# EAGLE library part HEADER-2X7P (library Deegou_Connector)
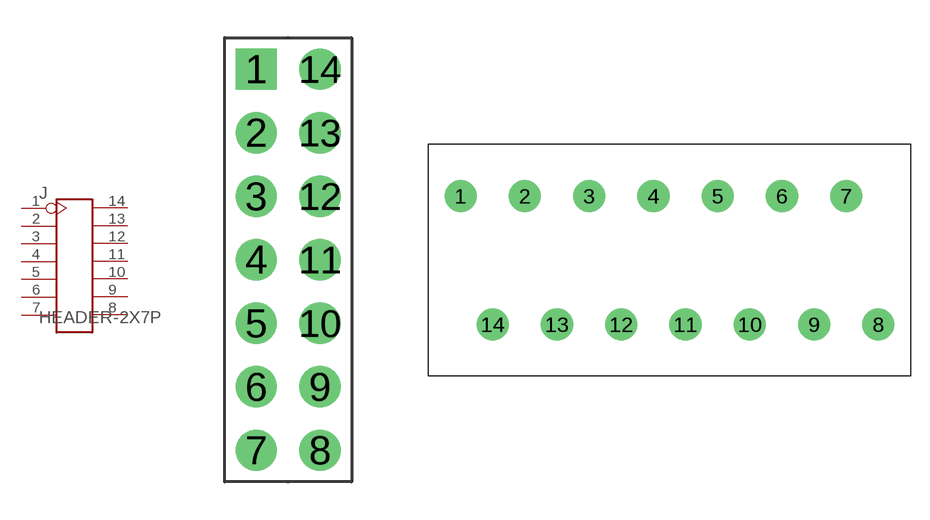
[diagram p8: symbol with the pads of 2X7P-2.54; footprints 2X7P-2.54, 2X7P-5.08]

Designator prefix J

## HEADER-2X7P-2.54  [2X7P-2.54]
1  1
2  2
3  3
4  4
5  5
6  6
7  7
8  8
9  9
10  10
11  11
12  12
13  13
14  14

## HEADER-2X7P-5.08  [2X7P-5.08]
Pads as for 2X7P-2.54

## Footprint 2X7P-2.54 (pad centres in mm)
drill 0.889 pad 1.651 square: 1 -1.27,7.62
drill 0.889 pad 1.651: 2 -1.27,5.08; 3 -1.27,2.54; 4 -1.27,0; 5 -1.27,-2.54; 6 -1.27,-5.08; 7 -1.27,-7.62; 8 1.27,-7.62; 9 1.27,-5.08; 10 1.27,-2.54; 11 1.27,0; 12 1.27,2.54; 13 1.27,5.08; 14 1.27,7.62

## Footprint 2X7P-5.08 (pad centres in mm)
drill 1.4 pad 2.54: 1 -16.51,5.08; 2 -11.43,5.08; 3 -6.35,5.08; 4 -1.27,5.08; 5 3.81,5.08; 6 8.89,5.08; 7 13.97,5.08; 8 16.51,-5.08; 9 11.43,-5.08; 10 6.35,-5.08; 11 1.27,-5.08; 12 -3.81,-5.08; 13 -8.89,-5.08; 14 -13.97,-5.08